# Altium footprint library BasicosyConectores.PcbLib: 34 footprints (part 3 of 3)
Each footprint in its own frame and in the unit in brackets; x right, y up, seen from the top. Pads: shape width x height; smd on the part's side, far side on the other; paste and mask are expansions set on the pad; w line width, h text height; cw(c..) or ccw(c..) is an arc to the next point about the centre after c.
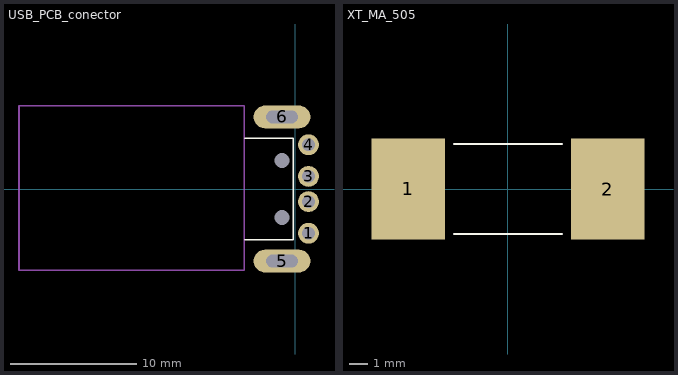
[diagram p2: the footprints below, top view; thin cyan lines are the x and y axes]

## USB_PCB_conector [mm]
pads (8):
  round 0 hole 1.175: 0(-1.05,-2.25)
  round 0 hole 1.175 unplated: 0(-1.05,2.25)
  round 1.65 hole 1: 1(1.05,-3.5) 2(1.05,-1) 3(1.05,1) 4(1.05,3.5)
  oval 4.5x1.8 hole 1 slot 2.5 at 0 deg: 5(-1.05,-5.7) 6(-1.05,5.7)
Top Overlay:
  lines w0.127: -4,-4 -0.16,-4 -0.16,4 -4,4
Mechanical 3:
  lines w0.127: -4.05,2.7 -4.05,6.57 -21.85,6.57 -21.85,-6.43 -4.05,-6.43 -4.05,-4 -4.05,4

## XT_MA_505 [mm] "Crystal SMD MA-505"
pads (2):
  rect 4.1x5.6 smd: 1(-5.55,0) 2(5.55,0)
Top Overlay:
  lines w0.127: -3,-2.5 3,-2.5 ; -3,2.5 3,2.5